# Altium footprint library encoder-mjf.PcbLib: 2 footprints
Each footprint in its own frame and in the unit in brackets; x right, y up, seen from the top. Pads: shape width x height; smd on the part's side, far side on the other; paste and mask are expansions set on the pad; w line width, h text height; cw(c..) or ccw(c..) is an arc to the next point about the centre after c.
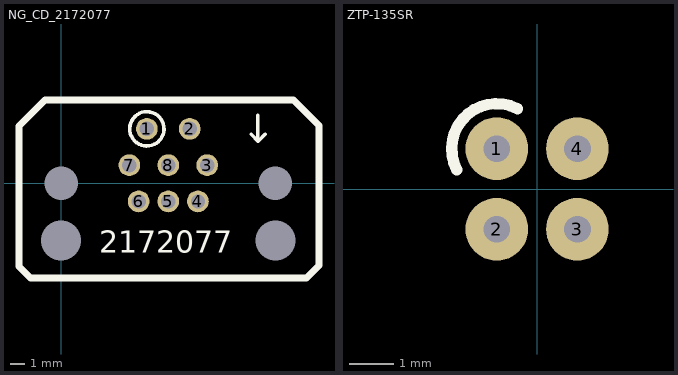
[diagram p0: the footprints below, top view; thin cyan lines are the x and y axes]

## NG_CD_2172077 [mm]
height 15
pads (12):
  round 1.524 hole 1: 1(6,3.81) 2(9,3.81) 3(10.225,1.27) 4(9.575,-1.27) 5(7.5,-1.27) 6(5.425,-1.27) 7(4.775,1.27) 8(7.5,1.27)
  round 0 hole 2.8: 9(0,-4) 9(15,-4)
  round 0 hole 2.35: 9(0,0) 9(15,0)
Top Overlay:
  lines w0.254: 7.189,3.977 ccw(c6,3.81) 7.191,3.964 ; 13.775,4.75 13.775,2.95 ; 14.275,3.425 13.8,2.95 13.775,2.95 ; 13.775,2.95 13.3,3.425 13.775,2.95
  lines w0.5: -0.425,5.825 16.275,5.825 18.05,4.05 18.05,-5.75 17.175,-6.625 -2.15,-6.625 -2.95,-5.825 -2.95,4 -1.125,5.825 -0.4,5.825
  text "2172077" at 2.675,-4.85 h1.52
3D body: height 17.03, standoff -2.49, extent -2.25,-22.566 17.25,4.2

## ZTP-135SR [mm] "IR Sensor"
height 2.6
pads (4):
  round 1.4 hole 0.6: 1(-0.9,0.9) 2(-0.9,-0.9) 3(0.9,-0.9) 4(0.9,0.9)
Top Overlay:
  lines w0.254: -1.792,0.431 cw(c-0.9,0.9) -0.439,1.796
Bottom Overlay:
  circle w0.254: c0,0 r2.7
  lines w0.254: -2.675,-0.5 -4,-0.5 -4,0.5 -2.675,0.5
3D body: height 3.7, standoff 0.5, extent -2.679,-2.695 2.7,2.695